# EAGLE library part NINTENDO-MULTI (library custom)
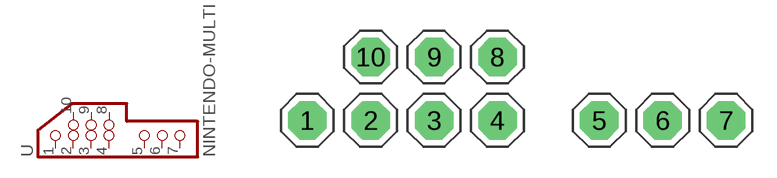
[diagram p0: symbol with the pads of NINTENDO-MULTI; footprint NINTENDO-MULTI]

Designator prefix -

## NINTENDO-MULTI  [NINTENDO-MULTI]
1  1  pas
2  2  pas
3  3  pas
4  4  pas
5  5  pas
6  6  pas
7  7  pas
8  8  pas
9  9  pas
10  10  pas

## Footprint NINTENDO-MULTI (pad centres in mm)
drill 1.6 octagon: 1 -11.887,-3.962; 2 -7.925,-3.962; 3 -3.962,-3.962; 4 0,-3.962; 5 6.35,-3.962; 6 10.312,-3.962; 7 14.275,-3.962; 8 0,0; 9 -3.962,0; 10 -7.925,0